# EAGLE library part BM71BLES1FC2 (library wireless_connectivity)
BLE 4.2 Module
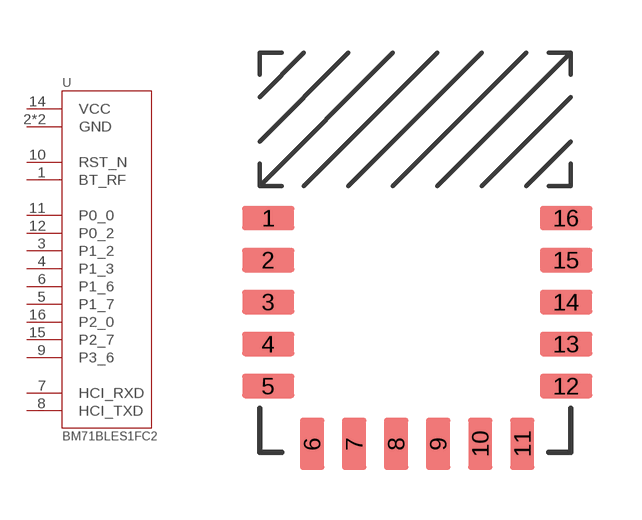
[diagram p0: symbol with the pads of MODULE_BM71BLES1FC2; footprint MODULE_BM71BLES1FC2]

Designator prefix U

## BM71BLES1FC2 (MF: Microchip; MP: BM71BLES1FC2; VALUE: BM71BLES1FC2)  [MODULE_BM71BLES1FC2]
1  BT_RF
2  GND  pwr
3  P1_2
4  P1_3
5  P1_7
6  P1_6
7  HCI_RXD
8  HCI_TXD
9  P3_6
10  RST_N
11  P0_0
12  P0_2
13  GND  pwr
14  VCC  pwr
15  P2_7
16  P2_0

## Footprint MODULE_BM71BLES1FC2 (pad centres in mm)
smd 1.5 x 0.7: 1 0.25,6.7; 2 0.25,5.5; 3 0.25,4.3; 4 0.25,3.1; 5 0.25,1.9; 12 8.75,1.9; 13 8.75,3.1; 14 8.75,4.3; 15 8.75,5.5; 16 8.75,6.7
smd 0.7 x 1.5: 6 1.5,0.25; 7 2.7,0.25; 8 3.9,0.25; 9 5.1,0.25; 10 6.3,0.25; 11 7.5,0.25